# EAGLE library part MCP3424T-E/ST (library scono)
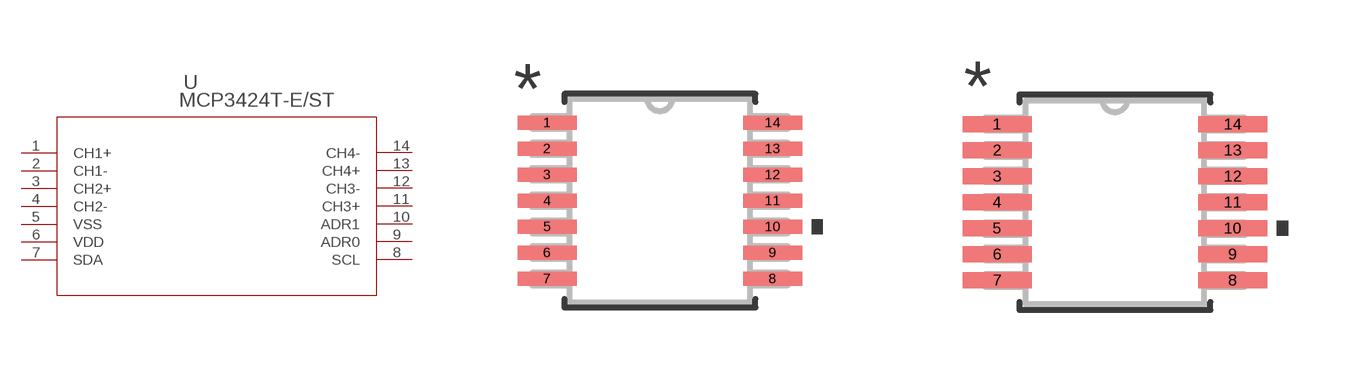
[diagram p71: symbol with the pads of TSSOP14_MC; footprints TSSOP14_MC, TSSOP14_MC-M]

Designator prefix U

## MCP3424T-E/ST (MANUFACTURER_PART_NUMBER: MCP3424TEST; VENDOR: Microchip)  [TSSOP14_MC]
1  CH1+  in
2  CH1-  in
3  CH2+  in
4  CH2-  in
5  VSS  pwr
6  VDD  pwr
7  SDA
8  SCL  in
9  ADR0  pas
10  ADR1  pas
11  CH3+  in
12  CH3-  in
13  CH4+  in
14  CH4-  in

## MCP3424T-E/STTSSOP14_MC-M (MANUFACTURER_PART_NUMBER: MCP3424TEST; VENDOR: Microchip)  [TSSOP14_MC-M]
Pads as for TSSOP14_MC

## MCP3424T-E/STTSSOP14_MC-L (MANUFACTURER_PART_NUMBER: MCP3424TEST; VENDOR: Microchip)  [TSSOP14_MC-L]
Pads as for TSSOP14_MC

## Footprint TSSOP14_MC (pad centres in mm)
smd 1.473 x 0.356: 1 -2.819,1.95; 2 -2.819,1.3; 3 -2.819,0.65; 4 -2.819,0; 5 -2.819,-0.65; 6 -2.819,-1.3; 7 -2.819,-1.95; 8 2.819,-1.95; 9 2.819,-1.3; 10 2.819,-0.65; 11 2.819,0; 12 2.819,0.65; 13 2.819,1.3; 14 2.819,1.95

## Footprint TSSOP14_MC-M (pad centres in mm)
smd 1.727 x 0.406: 1 -2.946,1.951; 2 -2.946,1.3; 3 -2.946,0.65; 4 -2.946,0; 5 -2.946,-0.65; 6 -2.946,-1.3; 7 -2.946,-1.951; 8 2.946,-1.951; 9 2.946,-1.3; 10 2.946,-0.65; 11 2.946,0; 12 2.946,0.65; 13 2.946,1.3; 14 2.946,1.951

## Footprint TSSOP14_MC-L (pad centres in mm)
smd 1.118 x 0.305: 1 -2.845,1.951; 2 -2.845,1.3; 3 -2.845,0.65; 4 -2.845,0; 5 -2.845,-0.65; 6 -2.845,-1.3; 7 -2.845,-1.951; 8 2.845,-1.951; 9 2.845,-1.3; 10 2.845,-0.65; 11 2.845,0; 12 2.845,0.65; 13 2.845,1.3; 14 2.845,1.951